# EAGLE library part PQQ10W-Q24-S3-S (library PQQ10W-Q24-S3-S)
Isolated DC/DC Converters dc-dc isolated, 10 W, 9 36 Vdc input, 3.3 Vdc, 2.4 A, single regulated output, SIP Source: Datasheet <https://www.mouser.jp/datasheet/2/670/pqq10w_s-1915167.pdf>
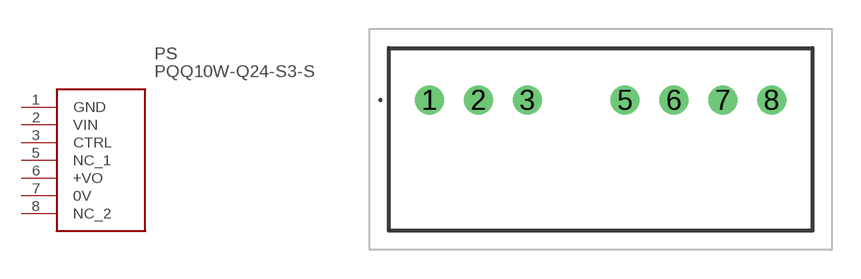
[diagram p0: symbol with the pads of PQQ10WQ24S3S; footprint PQQ10WQ24S3S]

Designator prefix PS

## PQQ10W-Q24-S3-S (Description: Isolated DC/DC Converters dc-dc isolated, 10 W, 9 36 Vdc input, 3.3 Vdc, 2.4 A, single regulated output, SIP; Height: 12.5mm; Manufacturer_Name: CUI Inc.; Manufacturer_Part_Number: PQQ10W-Q24-S3-S)  [PQQ10WQ24S3S]
1  GND
2  VIN
3  CTRL
5  NC_1
6  +VO
7  0V
8  NC_2

## Footprint PQQ10WQ24S3S (pad centres in mm)
PQQ10W-Q24-S3-S-2
drill 1 pad 1.5: 1 0,0; 2 2.54,0; 3 5.08,0; 5 10.16,0; 6 12.7,0; 7 15.24,0; 8 17.78,0